# Altium integrated library Linear Technology Power Management Battery Management.IntLib: 626 symbols (part 26 of 56)
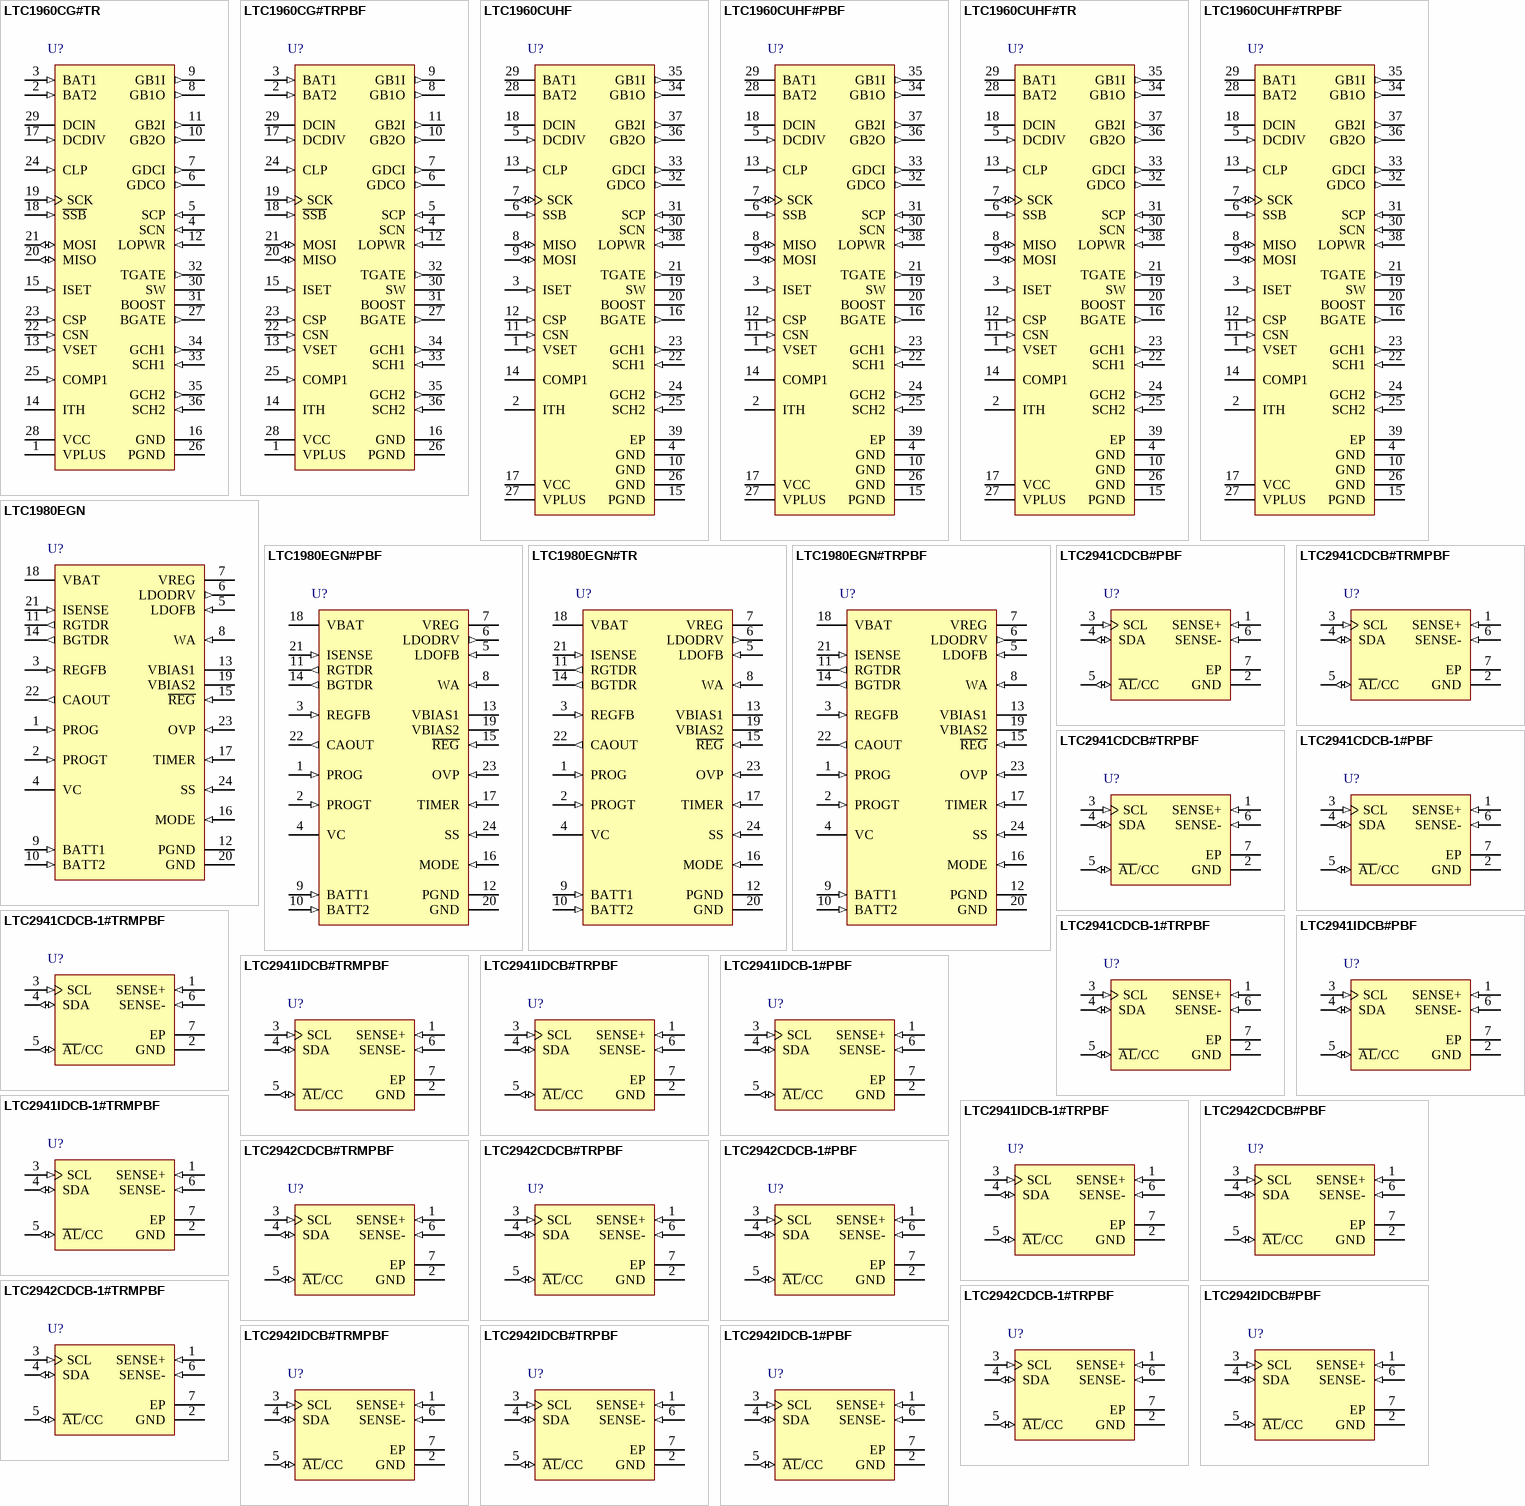
[diagram p47: symbols LTC1960CG#TR to LTC2942IDCB-1#PBF]

## LTC1980EGN#TRPBF
designator U?
Combination Battery Charger and System DC/DC Converter, 4.1 to 12 V Vin, 24-pin SOP (GN24), -40 to 85 degC, Pb-Free, Tape and Reel; Manufacturer: Linear Technology; PartNumber: LTC1980EGN#TRPBF; Battery Chemistry: Li-Ion, Li-Polymer, NiCd, NiMH, Lead Acid; Charge Termination: On-board timer; Float Voltage: Adj; Max Charge Current(A): 2; Type of Charger: Switching, Buck-Boost; Vin Max(V): 12; Vin Min(V): 4.1; PackageVersion: Rev. B, 03/2012; PackageReference: GN24; PackageDescription: 24-Pin Plastic SSOP , Body 8.5 x 3.9 mm, Pitch 0.635 mm; Supplier 1: Digi-Key; Supplier Part Number 1: LTC1980EGN#TRPBF-ND; Packing: Tape and Reel; RoHS: TRUE; Mounting Technology: Surface Mount; ComponentLink1Description: Manufacturer URL; ComponentLink1URL: http://www.linear.com/; ComponentLink2Description: Datasheet; ComponentLink2URL: http://cds.linear.com/docs/en/datasheet/1980f.pdf; ComponentLink3Description: Package Specification; ComponentLink3URL: http://cds.linear.com/docs/en/packaging/05081641_B_GN24.pdf
footprint LT-GN-24_N (SOP, 24-Leads, Body 8.7x4mm, Pitch 0.635mm, IPC Medium Density)
footprint LT-GN-24_L (SOP, 24-Leads, Body 8.7x4mm, Pitch 0.635mm, IPC High Density)
footprint LT-GN-24_M (SOP, 24-Leads, Body 8.7x4mm, Pitch 0.635mm, IPC Low Density)
pins: 1 PROG (in) "Charge Current Ratio Programming Pin. Programs the full charge current when the charger is in the constant current mode. A resistor placed between the PROG pin and the PROGT pin (Pin 2) determines the charge current. The (See Datasheet)", 2 PROGT (in) "Trickle Charge Programming Pin. Programs the trickle charge current for a deeply discharged battery. Two resistors are used, one between the PROGT pin and CAOUT (Pin 22) and another from PROGT to ground. A capacitor between (See Datasheet)", 3 REGFB (in) "DC/DC Converter Feedback Pin. This pin is used to program the DC/DC converter output voltage when the LTC1980 is in the DC/DC (regulator) converter mode. An external resistor divider from VREG to REGFB to ground programs the (See Datasheet)", 4 VC "Control Signal of the Inner Loop of the Current Mode PWM. A common current mode loop is used by the battery charger and voltage regulator functions. Minimum duty factor (measured on BGTDR (Pin 14) in regulator mode and RGTDR (See Datasheet)", 5 LDOFB (in) "Low Dropout Regulator Feedback Pin. This pin is used to program the low dropout linear regulator output voltage. An external resistor divider from the output of the LDO regulator (drain of the external MOSFET) to LDOFB to (See Datasheet)", 6 LDODRV (out) "Low Dropout Error Amplifier Output. This pin drives the gate of an external PMOS pass transistor. This pin is pulled up to VREG (shutting off the pass transistor) if MODE (Pin 16) is grounded or if undervoltage occurs.", 7 VREG (power) "Connection Point to the DC/DC Converter Side of the Combo Charger/Converter Circuit.", 8 WA (in) "Wall Adapter Comparator Input. An external resistor divider from the wall adapter output to WA to ground sets the threshold which determines if charging can occur. If the wall adapter is below this threshold, the LTC1980 (See Datasheet)", 9 BATT1 (in) "Logic Input Pin for Selecting Preprogrammed Li-Ion Charge Voltage. See Truth Table logic settings.", 10 BATT2 (in) "Logic Input Pin for Selecting Preprogrammed Li-Ion Charge Voltage. The following combinations of BATT1 and BATT2 select the correct Li-Ion charge voltage.", 11 RGTDR (out) "DC/DC Converter (Regulator) Side Gate Drive Pin. This pin provides gate drive to the external MOSFET (REG-FET) that connects to VREG via the transformer.", 12 PGND (power) "Power Ground. Refer to the Applications Information section for proper use of ground and power ground connections.", 13 VBIAS1 (power) "Internally Generated Power Bus. Bypass this pin with a 1uF or larger ceramic capacitor (or other low ESR capacitor) to PGND (Pin 12). Do not connect any load to this pin.", 14 BGTDR (out) "DC/DC Converter (Battery) Side Gate Drive Pin. This pin provides gate drive to the external MOSFET (BAT-FET) that connects to VBAT via the transformer", 15 ~{REG} (in) "Bidirectional Regulator Mode Control Pin. A pull-up resistor is required between this pin and VBIAS2. This pin is open when charging normally, has a weak pulldown (approximately 5uA) when conditioning the battery and a (See Datasheet)", 16 MODE (in) "Selects different operating modes in both charger and DC/DC converter configurations. Also enables and disables Burst Mode operation. See Mode Pin Operation table in Application section.", 17 TIMER (in) "A timing capacitor on this pin determines the normal charge time for charge termination.", 18 VBAT (power) "This pin connects to the positive terminal of the battery and the battery side of the power converte", 19 VBIAS2 (power) "Internally Generated Voltage. Bypass this pin with a 1uF or larger ceramic capacitor (or other low ESR capacitor). Do not connect any load to this pin.", 20 GND (power) "Signal Ground. This pin should Kelvinconnect to the current sense resistor (RSENSE).", 21 ISENSE (in) "Current Sense Input Pin. Connects internally to a current amplifier and zero current comparator. This pin should Kelvin-connect to the current sense resistor (RSENSE) .", 22 CAOUT (out) "Current Amplifier Output. A program resistor connects between this pin and PROGT (Pin 2) to set the charge current (in constant-current mode).", 23 OVP (in) "Overvoltage Protection. This pin connects to the tap on an optional external voltage divider connected across the battery. This allows nonstandard float voltages to be used for the battery charger. Overvoltage, restart and (See Datasheet)", 24 SS (in) "Soft-Start. A capacitor between this pin and ground sets the battery charge ramp rate. Battery charge current is very low the moment after the converter switches from DC/DC converter (regulator) mode to battery charger mode (See Datasheet)"

## LTC2941CDCB#PBF
designator U?
Battery Gas Gauge with I2C Interface, 2.7 to 5.5 V Vin, 6-pin SON (DCB-6), 0 to 70 degC, Pb-Free; Manufacturer: Linear Technology; PartNumber: LTC2941CDCB#PBF; Battery Chemistry: Li-Ion, Li-Polymer; Number of Cells: 1; Type of Charger: Coulomb Counter; Vin Max(V): 5.5; Vin Min(V): 2.7; DatasheetVersion: Rev. A; PackageVersion: Rev. A, 03/2011; PackageReference: DCB-6; PackageDescription: 6-Pin Plastic DFN, Body 2 x 3 mm, Pitch 0.5 mm; Supplier 1: Newark; Supplier Part Number 1: 67R4256; RoHS: TRUE; Mounting Technology: Surface Mount; Code_JEDEC: MO-229; ComponentLink1Description: Manufacturer URL; ComponentLink1URL: http://www.linear.com/; ComponentLink2Description: Datasheet; ComponentLink2URL: http://cds.linear.com/docs/en/datasheet/2941fa.pdf; ComponentLink3Description: Package Specification; ComponentLink3URL: http://www.linear.com/docs/en/packaging/(DCB6)%20DFN%2005-08-1715%20Rev%20A.pdf
footprint LT-DCB-6_V (SON, 6-Leads, Body 3x2mm, Pitch 0.5mm, Thermal Pad 1.65x1.35mm)
pins: 1 SENSE+ (in) "Positive Current Sense Input and Power Supply. Connect to the load/charger side of the sense resistor. VSENSE+ operating range is 2.7V to 5.5V.", 2 GND (power) "Device Ground. Connect directly to the negative battery terminal.", 3 SCL (in) "Serial Bus Clock Input.", 4 SDA (io) "Serial Bus Data Input and Output.", 5 ~{AL}/CC (io) "Alert Output or Charge Complete Input.", 6 SENSE- (in) "Negative Current Sense Input.", 7 EP "Do Not Connect."

## LTC2941CDCB#TRMPBF
designator U?
Battery Gas Gauge with I2C Interface, 2.7 to 5.5 V Vin, 6-pin SON (DCB-6), 0 to 70 degC, Pb-Free, Mini Tape and Reel; Manufacturer: Linear Technology; PartNumber: LTC2941CDCB#TRMPBF; Battery Chemistry: Li-Ion, Li-Polymer; Number of Cells: 1; Type of Charger: Coulomb Counter; Vin Max(V): 5.5; Vin Min(V): 2.7; DatasheetVersion: Rev. A; PackageVersion: Rev. A, 03/2011; PackageReference: DCB-6; PackageDescription: 6-Pin Plastic DFN, Body 2 x 3 mm, Pitch 0.5 mm; Supplier 1: Digi-Key; Supplier Part Number 1: LTC2941CDCB#TRMPBFTR-ND; Supplier 2: Digi-Key; Supplier Part Number 2: LTC2941CDCB#TRMPBFCT-ND; Supplier 3: Digi-Key; Supplier Part Number 3: LTC2941CDCB#TRMPBFDKR-ND; Supplier 4: Newark; Supplier Part Number 4: 67R9014; Packing: Mini Tape and Reel; RoHS: TRUE; Mounting Technology: Surface Mount; Code_JEDEC: MO-229; ComponentLink1Description: Manufacturer URL; ComponentLink1URL: http://www.linear.com/; ComponentLink2Description: Datasheet; ComponentLink2URL: http://cds.linear.com/docs/en/datasheet/2941fa.pdf; ComponentLink3Description: Package Specification; ComponentLink3URL: http://www.linear.com/docs/en/packaging/(DCB6)%20DFN%2005-08-1715%20Rev%20A.pdf
footprint LT-DCB-6_V (SON, 6-Leads, Body 3x2mm, Pitch 0.5mm, Thermal Pad 1.65x1.35mm)
pins: 1 SENSE+ (in) "Positive Current Sense Input and Power Supply. Connect to the load/charger side of the sense resistor. VSENSE+ operating range is 2.7V to 5.5V.", 2 GND (power) "Device Ground. Connect directly to the negative battery terminal.", 3 SCL (in) "Serial Bus Clock Input.", 4 SDA (io) "Serial Bus Data Input and Output.", 5 ~{AL}/CC (io) "Alert Output or Charge Complete Input.", 6 SENSE- (in) "Negative Current Sense Input.", 7 EP "Do Not Connect."

## LTC2941CDCB#TRPBF
designator U?
Battery Gas Gauge with I2C Interface, 2.7 to 5.5 V Vin, 6-pin SON (DCB-6), 0 to 70 degC, Pb-Free, Tape and Reel; Manufacturer: Linear Technology; PartNumber: LTC2941CDCB#TRPBF; Battery Chemistry: Li-Ion, Li-Polymer; Number of Cells: 1; Type of Charger: Coulomb Counter; Vin Max(V): 5.5; Vin Min(V): 2.7; DatasheetVersion: Rev. A; PackageVersion: Rev. A, 03/2011; PackageReference: DCB-6; PackageDescription: 6-Pin Plastic DFN, Body 2 x 3 mm, Pitch 0.5 mm; Supplier 1: Digi-Key; Supplier Part Number 1: LTC2941CDCB#TRPBF-ND; Packing: Tape and Reel; RoHS: TRUE; Mounting Technology: Surface Mount; Code_JEDEC: MO-229; ComponentLink1Description: Manufacturer URL; ComponentLink1URL: http://www.linear.com/; ComponentLink2Description: Datasheet; ComponentLink2URL: http://cds.linear.com/docs/en/datasheet/2941fa.pdf; ComponentLink3Description: Package Specification; ComponentLink3URL: http://www.linear.com/docs/en/packaging/(DCB6)%20DFN%2005-08-1715%20Rev%20A.pdf
footprint LT-DCB-6_V (SON, 6-Leads, Body 3x2mm, Pitch 0.5mm, Thermal Pad 1.65x1.35mm)
pins: 1 SENSE+ (in) "Positive Current Sense Input and Power Supply. Connect to the load/charger side of the sense resistor. VSENSE+ operating range is 2.7V to 5.5V.", 2 GND (power) "Device Ground. Connect directly to the negative battery terminal.", 3 SCL (in) "Serial Bus Clock Input.", 4 SDA (io) "Serial Bus Data Input and Output.", 5 ~{AL}/CC (io) "Alert Output or Charge Complete Input.", 6 SENSE- (in) "Negative Current Sense Input.", 7 EP "Do Not Connect."

## LTC2941CDCB-1#PBF
designator U?
1 A I2C Battery Gas Gauge with Internal Sense Resistor, 2.7 to 5.5 V Vin, 6-pin SON (DCB-6), 0 to 70 degC, Pb-Free; Manufacturer: Linear Technology; PartNumber: LTC2941CDCB-1#PBF; Battery Chemistry: Li-Ion, Li-Polymer; Number of Cells: 1; Type of Charger: Coulomb Counter; Vin Max(V): 5.5; Vin Min(V): 2.7; PackageVersion: Rev. A, 03/2011; PackageReference: DCB-6; PackageDescription: 6-Pin Plastic DFN, Body 2 x 3 mm, Pitch 0.5 mm; Supplier 1: Farnell; Supplier Part Number 1: 1847651; Supplier 2: Newark; Supplier Part Number 2: 84R7840; RoHS: TRUE; Mounting Technology: Surface Mount; Code_JEDEC: MO-229; ComponentLink1Description: Manufacturer URL; ComponentLink1URL: http://www.linear.com/; ComponentLink2Description: Datasheet; ComponentLink2URL: http://cds.linear.com/docs/en/datasheet/29411f.pdf; ComponentLink3Description: Package Specification; ComponentLink3URL: http://www.linear.com/docs/en/packaging/(DCB6)%20DFN%2005-08-1715%20Rev%20A.pdf
footprint LT-DCB-6_V (SON, 6-Leads, Body 3x2mm, Pitch 0.5mm, Thermal Pad 1.65x1.35mm)
pins: 1 SENSE+ (in) "Positive Current Sense Input and Power Supply. Connect to the load/charger side of the sense resistor. VSENSE+ operating range is 2.7V to 5.5V.", 2 GND (power) "Device Ground. Connect directly to the negative battery terminal.", 3 SCL (in) "Serial Bus Clock Input.", 4 SDA (io) "Serial Bus Data Input and Output.", 5 ~{AL}/CC (io) "Alert Output or Charge Complete Input.", 6 SENSE- (in) "Negative Current Sense Input.", 7 EP "Do Not Connect."

## LTC2941CDCB-1#TRMPBF
designator U?
1 A I2C Battery Gas Gauge with Internal Sense Resistor, 2.7 to 5.5 V Vin, 6-pin SON (DCB-6), 0 to 70 degC, Pb-Free, Mini Tape and Reel; Manufacturer: Linear Technology; PartNumber: LTC2941CDCB-1#TRMPBF; Battery Chemistry: Li-Ion, Li-Polymer; Number of Cells: 1; Type of Charger: Coulomb Counter; Vin Max(V): 5.5; Vin Min(V): 2.7; PackageVersion: Rev. A, 03/2011; PackageReference: DCB-6; PackageDescription: 6-Pin Plastic DFN, Body 2 x 3 mm, Pitch 0.5 mm; Supplier 1: Digi-Key; Supplier Part Number 1: LTC2941CDCB-1#TRMPBFTR-ND; Supplier 2: Digi-Key; Supplier Part Number 2: LTC2941CDCB-1#TRMPBFCT-ND; Supplier 3: Digi-Key; Supplier Part Number 3: LTC2941CDCB-1#TRMPBFDKR-ND; Supplier 4: Newark; Supplier Part Number 4: 84R6664; Packing: Mini Tape and Reel; RoHS: TRUE; Mounting Technology: Surface Mount; Code_JEDEC: MO-229; ComponentLink1Description: Manufacturer URL; ComponentLink1URL: http://www.linear.com/; ComponentLink2Description: Datasheet; ComponentLink2URL: http://cds.linear.com/docs/en/datasheet/29411f.pdf; ComponentLink3Description: Package Specification; ComponentLink3URL: http://www.linear.com/docs/en/packaging/(DCB6)%20DFN%2005-08-1715%20Rev%20A.pdf
footprint LT-DCB-6_V (SON, 6-Leads, Body 3x2mm, Pitch 0.5mm, Thermal Pad 1.65x1.35mm)
pins: 1 SENSE+ (in) "Positive Current Sense Input and Power Supply. Connect to the load/charger side of the sense resistor. VSENSE+ operating range is 2.7V to 5.5V.", 2 GND (power) "Device Ground. Connect directly to the negative battery terminal.", 3 SCL (in) "Serial Bus Clock Input.", 4 SDA (io) "Serial Bus Data Input and Output.", 5 ~{AL}/CC (io) "Alert Output or Charge Complete Input.", 6 SENSE- (in) "Negative Current Sense Input.", 7 EP "Do Not Connect."

## LTC2941CDCB-1#TRPBF
designator U?
1 A I2C Battery Gas Gauge with Internal Sense Resistor, 2.7 to 5.5 V Vin, 6-pin SON (DCB-6), 0 to 70 degC, Pb-Free, Tape and Reel; Manufacturer: Linear Technology; PartNumber: LTC2941CDCB-1#TRPBF; Battery Chemistry: Li-Ion, Li-Polymer; Number of Cells: 1; Type of Charger: Coulomb Counter; Vin Max(V): 5.5; Vin Min(V): 2.7; PackageVersion: Rev. A, 03/2011; PackageReference: DCB-6; PackageDescription: 6-Pin Plastic DFN, Body 2 x 3 mm, Pitch 0.5 mm; Supplier 1: Digi-Key; Supplier Part Number 1: LTC2941CDCB-1#TRPBF-ND; Packing: Tape and Reel; RoHS: TRUE; Mounting Technology: Surface Mount; Code_JEDEC: MO-229; ComponentLink1Description: Manufacturer URL; ComponentLink1URL: http://www.linear.com/; ComponentLink2Description: Datasheet; ComponentLink2URL: http://cds.linear.com/docs/en/datasheet/29411f.pdf; ComponentLink3Description: Package Specification; ComponentLink3URL: http://www.linear.com/docs/en/packaging/(DCB6)%20DFN%2005-08-1715%20Rev%20A.pdf
footprint LT-DCB-6_V (SON, 6-Leads, Body 3x2mm, Pitch 0.5mm, Thermal Pad 1.65x1.35mm)
pins: 1 SENSE+ (in) "Positive Current Sense Input and Power Supply. Connect to the load/charger side of the sense resistor. VSENSE+ operating range is 2.7V to 5.5V.", 2 GND (power) "Device Ground. Connect directly to the negative battery terminal.", 3 SCL (in) "Serial Bus Clock Input.", 4 SDA (io) "Serial Bus Data Input and Output.", 5 ~{AL}/CC (io) "Alert Output or Charge Complete Input.", 6 SENSE- (in) "Negative Current Sense Input.", 7 EP "Do Not Connect."

## LTC2941IDCB#PBF
designator U?
Battery Gas Gauge with I2C Interface, 2.7 to 5.5 V Vin, 6-pin SON (DCB-6), -40 to 85 degC, Pb-Free; Manufacturer: Linear Technology; PartNumber: LTC2941IDCB#PBF; Battery Chemistry: Li-Ion, Li-Polymer; Number of Cells: 1; Type of Charger: Coulomb Counter; Vin Max(V): 5.5; Vin Min(V): 2.7; DatasheetVersion: Rev. A; PackageVersion: Rev. A, 03/2011; PackageReference: DCB-6; PackageDescription: 6-Pin Plastic DFN, Body 2 x 3 mm, Pitch 0.5 mm; RoHS: TRUE; Mounting Technology: Surface Mount; Code_JEDEC: MO-229; ComponentLink1Description: Manufacturer URL; ComponentLink1URL: http://www.linear.com/; ComponentLink2Description: Datasheet; ComponentLink2URL: http://cds.linear.com/docs/en/datasheet/2941fa.pdf; ComponentLink3Description: Package Specification; ComponentLink3URL: http://www.linear.com/docs/en/packaging/(DCB6)%20DFN%2005-08-1715%20Rev%20A.pdf
footprint LT-DCB-6_V (SON, 6-Leads, Body 3x2mm, Pitch 0.5mm, Thermal Pad 1.65x1.35mm)
pins: 1 SENSE+ (in) "Positive Current Sense Input and Power Supply. Connect to the load/charger side of the sense resistor. VSENSE+ operating range is 2.7V to 5.5V.", 2 GND (power) "Device Ground. Connect directly to the negative battery terminal.", 3 SCL (in) "Serial Bus Clock Input.", 4 SDA (io) "Serial Bus Data Input and Output.", 5 ~{AL}/CC (io) "Alert Output or Charge Complete Input.", 6 SENSE- (in) "Negative Current Sense Input.", 7 EP "Do Not Connect."

## LTC2941IDCB#TRMPBF
designator U?
Battery Gas Gauge with I2C Interface, 2.7 to 5.5 V Vin, 6-pin SON (DCB-6), -40 to 85 degC, Pb-Free, Mini Tape and Reel; Manufacturer: Linear Technology; PartNumber: LTC2941IDCB#TRMPBF; Battery Chemistry: Li-Ion, Li-Polymer; Number of Cells: 1; Type of Charger: Coulomb Counter; Vin Max(V): 5.5; Vin Min(V): 2.7; DatasheetVersion: Rev. A; PackageVersion: Rev. A, 03/2011; PackageReference: DCB-6; PackageDescription: 6-Pin Plastic DFN, Body 2 x 3 mm, Pitch 0.5 mm; Supplier 1: Digi-Key; Supplier Part Number 1: LTC2941IDCB#TRMPBFTR-ND; Supplier 2: Digi-Key; Supplier Part Number 2: LTC2941IDCB#TRMPBFCT-ND; Supplier 3: Digi-Key; Supplier Part Number 3: LTC2941IDCB#TRMPBFDKR-ND; Supplier 4: Newark; Supplier Part Number 4: 67R9016; Packing: Mini Tape and Reel; RoHS: TRUE; Mounting Technology: Surface Mount; Code_JEDEC: MO-229; ComponentLink1Description: Manufacturer URL; ComponentLink1URL: http://www.linear.com/; ComponentLink2Description: Datasheet; ComponentLink2URL: http://cds.linear.com/docs/en/datasheet/2941fa.pdf; ComponentLink3Description: Package Specification; ComponentLink3URL: http://www.linear.com/docs/en/packaging/(DCB6)%20DFN%2005-08-1715%20Rev%20A.pdf
footprint LT-DCB-6_V (SON, 6-Leads, Body 3x2mm, Pitch 0.5mm, Thermal Pad 1.65x1.35mm)
pins: 1 SENSE+ (in) "Positive Current Sense Input and Power Supply. Connect to the load/charger side of the sense resistor. VSENSE+ operating range is 2.7V to 5.5V.", 2 GND (power) "Device Ground. Connect directly to the negative battery terminal.", 3 SCL (in) "Serial Bus Clock Input.", 4 SDA (io) "Serial Bus Data Input and Output.", 5 ~{AL}/CC (io) "Alert Output or Charge Complete Input.", 6 SENSE- (in) "Negative Current Sense Input.", 7 EP "Do Not Connect."

## LTC2941IDCB#TRPBF
designator U?
Battery Gas Gauge with I2C Interface, 2.7 to 5.5 V Vin, 6-pin SON (DCB-6), -40 to 85 degC, Pb-Free, Tape and Reel; Manufacturer: Linear Technology; PartNumber: LTC2941IDCB#TRPBF; Battery Chemistry: Li-Ion, Li-Polymer; Number of Cells: 1; Type of Charger: Coulomb Counter; Vin Max(V): 5.5; Vin Min(V): 2.7; DatasheetVersion: Rev. A; PackageVersion: Rev. A, 03/2011; PackageReference: DCB-6; PackageDescription: 6-Pin Plastic DFN, Body 2 x 3 mm, Pitch 0.5 mm; Supplier 1: Digi-Key; Supplier Part Number 1: LTC2941IDCB#TRPBF-ND; Supplier 2: Newark; Supplier Part Number 2: 67R9017; Packing: Tape and Reel; RoHS: TRUE; Mounting Technology: Surface Mount; Code_JEDEC: MO-229; ComponentLink1Description: Manufacturer URL; ComponentLink1URL: http://www.linear.com/; ComponentLink2Description: Datasheet; ComponentLink2URL: http://cds.linear.com/docs/en/datasheet/2941fa.pdf; ComponentLink3Description: Package Specification; ComponentLink3URL: http://www.linear.com/docs/en/packaging/(DCB6)%20DFN%2005-08-1715%20Rev%20A.pdf
footprint LT-DCB-6_V (SON, 6-Leads, Body 3x2mm, Pitch 0.5mm, Thermal Pad 1.65x1.35mm)
pins: 1 SENSE+ (in) "Positive Current Sense Input and Power Supply. Connect to the load/charger side of the sense resistor. VSENSE+ operating range is 2.7V to 5.5V.", 2 GND (power) "Device Ground. Connect directly to the negative battery terminal.", 3 SCL (in) "Serial Bus Clock Input.", 4 SDA (io) "Serial Bus Data Input and Output.", 5 ~{AL}/CC (io) "Alert Output or Charge Complete Input.", 6 SENSE- (in) "Negative Current Sense Input.", 7 EP "Do Not Connect."

## LTC2941IDCB-1#PBF
designator U?
1 A I2C Battery Gas Gauge with Internal Sense Resistor, 2.7 to 5.5 V Vin, 6-pin SON (DCB-6), -40 to 85 degC, Pb-Free; Manufacturer: Linear Technology; PartNumber: LTC2941IDCB-1#PBF; Battery Chemistry: Li-Ion, Li-Polymer; Number of Cells: 1; Type of Charger: Coulomb Counter; Vin Max(V): 5.5; Vin Min(V): 2.7; PackageVersion: Rev. A, 03/2011; PackageReference: DCB-6; PackageDescription: 6-Pin Plastic DFN, Body 2 x 3 mm, Pitch 0.5 mm; RoHS: TRUE; Mounting Technology: Surface Mount; Code_JEDEC: MO-229; ComponentLink1Description: Manufacturer URL; ComponentLink1URL: http://www.linear.com/; ComponentLink2Description: Datasheet; ComponentLink2URL: http://cds.linear.com/docs/en/datasheet/29411f.pdf; ComponentLink3Description: Package Specification; ComponentLink3URL: http://www.linear.com/docs/en/packaging/(DCB6)%20DFN%2005-08-1715%20Rev%20A.pdf
footprint LT-DCB-6_V (SON, 6-Leads, Body 3x2mm, Pitch 0.5mm, Thermal Pad 1.65x1.35mm)
pins: 1 SENSE+ (in) "Positive Current Sense Input and Power Supply. Connect to the load/charger side of the sense resistor. VSENSE+ operating range is 2.7V to 5.5V.", 2 GND (power) "Device Ground. Connect directly to the negative battery terminal.", 3 SCL (in) "Serial Bus Clock Input.", 4 SDA (io) "Serial Bus Data Input and Output.", 5 ~{AL}/CC (io) "Alert Output or Charge Complete Input.", 6 SENSE- (in) "Negative Current Sense Input.", 7 EP "Do Not Connect."

## LTC2941IDCB-1#TRMPBF
designator U?
1 A I2C Battery Gas Gauge with Internal Sense Resistor, 2.7 to 5.5 V Vin, 6-pin SON (DCB-6), -40 to 85 degC, Pb-Free, Mini Tape and Reel; Manufacturer: Linear Technology; PartNumber: LTC2941IDCB-1#TRMPBF; Battery Chemistry: Li-Ion, Li-Polymer; Number of Cells: 1; Type of Charger: Coulomb Counter; Vin Max(V): 5.5; Vin Min(V): 2.7; PackageVersion: Rev. A, 03/2011; PackageReference: DCB-6; PackageDescription: 6-Pin Plastic DFN, Body 2 x 3 mm, Pitch 0.5 mm; Supplier 1: Digi-Key; Supplier Part Number 1: LTC2941IDCB-1#TRMPBFTR-ND; Supplier 2: Digi-Key; Supplier Part Number 2: LTC2941IDCB-1#TRMPBFCT-ND; Supplier 3: Digi-Key; Supplier Part Number 3: LTC2941IDCB-1#TRMPBFDKR-ND; Packing: Mini Tape and Reel; RoHS: TRUE; Mounting Technology: Surface Mount; Code_JEDEC: MO-229; ComponentLink1Description: Manufacturer URL; ComponentLink1URL: http://www.linear.com/; ComponentLink2Description: Datasheet; ComponentLink2URL: http://cds.linear.com/docs/en/datasheet/29411f.pdf; ComponentLink3Description: Package Specification; ComponentLink3URL: http://www.linear.com/docs/en/packaging/(DCB6)%20DFN%2005-08-1715%20Rev%20A.pdf
footprint LT-DCB-6_V (SON, 6-Leads, Body 3x2mm, Pitch 0.5mm, Thermal Pad 1.65x1.35mm)
pins: 1 SENSE+ (in) "Positive Current Sense Input and Power Supply. Connect to the load/charger side of the sense resistor. VSENSE+ operating range is 2.7V to 5.5V.", 2 GND (power) "Device Ground. Connect directly to the negative battery terminal.", 3 SCL (in) "Serial Bus Clock Input.", 4 SDA (io) "Serial Bus Data Input and Output.", 5 ~{AL}/CC (io) "Alert Output or Charge Complete Input.", 6 SENSE- (in) "Negative Current Sense Input.", 7 EP "Do Not Connect."

## LTC2941IDCB-1#TRPBF
designator U?
1 A I2C Battery Gas Gauge with Internal Sense Resistor, 2.7 to 5.5 V Vin, 6-pin SON (DCB-6), -40 to 85 degC, Pb-Free, Tape and Reel; Manufacturer: Linear Technology; PartNumber: LTC2941IDCB-1#TRPBF; Battery Chemistry: Li-Ion, Li-Polymer; Number of Cells: 1; Type of Charger: Coulomb Counter; Vin Max(V): 5.5; Vin Min(V): 2.7; PackageVersion: Rev. A, 03/2011; PackageReference: DCB-6; PackageDescription: 6-Pin Plastic DFN, Body 2 x 3 mm, Pitch 0.5 mm; Supplier 1: Digi-Key; Supplier Part Number 1: LTC2941IDCB-1#TRPBF-ND; Packing: Tape and Reel; RoHS: TRUE; Mounting Technology: Surface Mount; Code_JEDEC: MO-229; ComponentLink1Description: Manufacturer URL; ComponentLink1URL: http://www.linear.com/; ComponentLink2Description: Datasheet; ComponentLink2URL: http://cds.linear.com/docs/en/datasheet/29411f.pdf; ComponentLink3Description: Package Specification; ComponentLink3URL: http://www.linear.com/docs/en/packaging/(DCB6)%20DFN%2005-08-1715%20Rev%20A.pdf
footprint LT-DCB-6_V (SON, 6-Leads, Body 3x2mm, Pitch 0.5mm, Thermal Pad 1.65x1.35mm)
pins: 1 SENSE+ (in) "Positive Current Sense Input and Power Supply. Connect to the load/charger side of the sense resistor. VSENSE+ operating range is 2.7V to 5.5V.", 2 GND (power) "Device Ground. Connect directly to the negative battery terminal.", 3 SCL (in) "Serial Bus Clock Input.", 4 SDA (io) "Serial Bus Data Input and Output.", 5 ~{AL}/CC (io) "Alert Output or Charge Complete Input.", 6 SENSE- (in) "Negative Current Sense Input.", 7 EP "Do Not Connect."

## LTC2942CDCB#PBF
designator U?
Battery Gas Gauge with Temperature, Voltage Measurement, 2.7 to 5.5 V Vin, 6-pin SON (DCB-6), 0 to 70 degC, Pb-Free; Manufacturer: Linear Technology; PartNumber: LTC2942CDCB#PBF; Battery Chemistry: Li-Ion, Li-Polymer; Number of Cells: 1; Type of Charger: Coulomb Counter; Vin Max(V): 5.5; Vin Min(V): 2.7; DatasheetVersion: Rev. A; PackageVersion: Rev. A, 03/2011; PackageReference: DCB-6; PackageDescription: 6-Pin Plastic DFN, Body 2 x 3 mm, Pitch 0.5 mm; Supplier 1: Newark; Supplier Part Number 1: 67R4257; RoHS: TRUE; Mounting Technology: Surface Mount; Code_JEDEC: MO-229; ComponentLink1Description: Manufacturer URL; ComponentLink1URL: http://www.linear.com/; ComponentLink2Description: Datasheet; ComponentLink2URL: http://cds.linear.com/docs/en/datasheet/2942fa.pdf; ComponentLink3Description: Package Specification; ComponentLink3URL: http://www.linear.com/docs/en/packaging/(DCB6)%20DFN%2005-08-1715%20Rev%20A.pdf
footprint LT-DCB-6_V (SON, 6-Leads, Body 3x2mm, Pitch 0.5mm, Thermal Pad 1.65x1.35mm)
pins: 1 SENSE+ (in) "Positive Current Sense Input and Power Supply. Connect to the load/charger side of the sense resistor. VSENSE+ operating range is 2.7V to 5.5V.", 2 GND (power) "Device Ground. Connect directly to the negative battery terminal.", 3 SCL (in) "Serial Bus Clock Input.", 4 SDA (io) "Serial Bus Data Input and Output.", 5 ~{AL}/CC (io) "Alert Output or Charge Complete Input.", 6 SENSE- (in) "Negative Current Sense Input.", 7 EP "Do Not Connect."

## LTC2942CDCB#TRMPBF
designator U?
Battery Gas Gauge with Temperature, Voltage Measurement, 2.7 to 5.5 V Vin, 6-pin SON (DCB-6), 0 to 70 degC, Pb-Free, Mini Tape and Reel; Manufacturer: Linear Technology; PartNumber: LTC2942CDCB#TRMPBF; Battery Chemistry: Li-Ion, Li-Polymer; Number of Cells: 1; Type of Charger: Coulomb Counter; Vin Max(V): 5.5; Vin Min(V): 2.7; DatasheetVersion: Rev. A; PackageVersion: Rev. A, 03/2011; PackageReference: DCB-6; PackageDescription: 6-Pin Plastic DFN, Body 2 x 3 mm, Pitch 0.5 mm; Supplier 1: Digi-Key; Supplier Part Number 1: LTC2942CDCB#TRMPBFTR-ND; Supplier 2: Digi-Key; Supplier Part Number 2: LTC2942CDCB#TRMPBFCT-ND; Supplier 3: Digi-Key; Supplier Part Number 3: LTC2942CDCB#TRMPBFDKR-ND; Supplier 4: Newark; Supplier Part Number 4: 73W9307; Supplier 5: Newark; Supplier Part Number 5: 67R9018; Packing: Mini Tape and Reel; RoHS: TRUE; Mounting Technology: Surface Mount; Code_JEDEC: MO-229; ComponentLink1Description: Manufacturer URL; ComponentLink1URL: http://www.linear.com/; ComponentLink2Description: Datasheet; ComponentLink2URL: http://cds.linear.com/docs/en/datasheet/2942fa.pdf; ComponentLink3Description: Package Specification; ComponentLink3URL: http://www.linear.com/docs/en/packaging/(DCB6)%20DFN%2005-08-1715%20Rev%20A.pdf
footprint LT-DCB-6_V (SON, 6-Leads, Body 3x2mm, Pitch 0.5mm, Thermal Pad 1.65x1.35mm)
pins: 1 SENSE+ (in) "Positive Current Sense Input and Power Supply. Connect to the load/charger side of the sense resistor. VSENSE+ operating range is 2.7V to 5.5V.", 2 GND (power) "Device Ground. Connect directly to the negative battery terminal.", 3 SCL (in) "Serial Bus Clock Input.", 4 SDA (io) "Serial Bus Data Input and Output.", 5 ~{AL}/CC (io) "Alert Output or Charge Complete Input.", 6 SENSE- (in) "Negative Current Sense Input.", 7 EP "Do Not Connect."

## LTC2942CDCB#TRPBF
designator U?
Battery Gas Gauge with Temperature, Voltage Measurement, 2.7 to 5.5 V Vin, 6-pin SON (DCB-6), 0 to 70 degC, Pb-Free, Tape and Reel; Manufacturer: Linear Technology; PartNumber: LTC2942CDCB#TRPBF; Battery Chemistry: Li-Ion, Li-Polymer; Number of Cells: 1; Type of Charger: Coulomb Counter; Vin Max(V): 5.5; Vin Min(V): 2.7; DatasheetVersion: Rev. A; PackageVersion: Rev. A, 03/2011; PackageReference: DCB-6; PackageDescription: 6-Pin Plastic DFN, Body 2 x 3 mm, Pitch 0.5 mm; Supplier 1: Digi-Key; Supplier Part Number 1: LTC2942CDCB#TRPBF-ND; Supplier 2: Newark; Supplier Part Number 2: 67R9019; Packing: Tape and Reel; RoHS: TRUE; Mounting Technology: Surface Mount; Code_JEDEC: MO-229; ComponentLink1Description: Manufacturer URL; ComponentLink1URL: http://www.linear.com/; ComponentLink2Description: Datasheet; ComponentLink2URL: http://cds.linear.com/docs/en/datasheet/2942fa.pdf; ComponentLink3Description: Package Specification; ComponentLink3URL: http://www.linear.com/docs/en/packaging/(DCB6)%20DFN%2005-08-1715%20Rev%20A.pdf
footprint LT-DCB-6_V (SON, 6-Leads, Body 3x2mm, Pitch 0.5mm, Thermal Pad 1.65x1.35mm)
pins: 1 SENSE+ (in) "Positive Current Sense Input and Power Supply. Connect to the load/charger side of the sense resistor. VSENSE+ operating range is 2.7V to 5.5V.", 2 GND (power) "Device Ground. Connect directly to the negative battery terminal.", 3 SCL (in) "Serial Bus Clock Input.", 4 SDA (io) "Serial Bus Data Input and Output.", 5 ~{AL}/CC (io) "Alert Output or Charge Complete Input.", 6 SENSE- (in) "Negative Current Sense Input.", 7 EP "Do Not Connect."

## LTC2942CDCB-1#PBF
designator U?
1 A Battery Gas Gauge with Internal Sense Resistor and Temperature / Voltage Measurement, 2.7 to 5.5 V Vin, 6-pin SON (DCB-6), 0 to 70 degC, Pb-Free; Manufacturer: Linear Technology; PartNumber: LTC2942CDCB-1#PBF; Battery Chemistry: Li-Ion, Li-Polymer; Number of Cells: 1; Type of Charger: Coulomb Counter; Vin Max(V): 5.5; Vin Min(V): 2.7; PackageVersion: Rev. A, 03/2011; PackageReference: DCB-6; PackageDescription: 6-Pin Plastic DFN, Body 2 x 3 mm, Pitch 0.5 mm; Supplier 1: Farnell; Supplier Part Number 1: 1847652; Supplier 2: Newark; Supplier Part Number 2: 84R7841; RoHS: TRUE; Mounting Technology: Surface Mount; Code_JEDEC: MO-229; ComponentLink1Description: Manufacturer URL; ComponentLink1URL: http://www.linear.com/; ComponentLink2Description: Datasheet; ComponentLink2URL: http://cds.linear.com/docs/en/datasheet/29421f.pdf; ComponentLink3Description: Package Specification; ComponentLink3URL: http://www.linear.com/docs/en/packaging/(DCB6)%20DFN%2005-08-1715%20Rev%20A.pdf
footprint LT-DCB-6_V (SON, 6-Leads, Body 3x2mm, Pitch 0.5mm, Thermal Pad 1.65x1.35mm)
pins: 1 SENSE+ (in) "Positive Current Sense Input and Power Supply. Connect to the load/charger side of the sense resistor. VSENSE+ operating range is 2.7V to 5.5V.", 2 GND (power) "Device Ground. Connect directly to the negative battery terminal.", 3 SCL (in) "Serial Bus Clock Input.", 4 SDA (io) "Serial Bus Data Input and Output.", 5 ~{AL}/CC (io) "Alert Output or Charge Complete Input.", 6 SENSE- (in) "Negative Current Sense Input.", 7 EP "Do Not Connect."

## LTC2942CDCB-1#TRMPBF
designator U?
1 A Battery Gas Gauge with Internal Sense Resistor and Temperature / Voltage Measurement, 2.7 to 5.5 V Vin, 6-pin SON (DCB-6), 0 to 70 degC, Pb-Free, Mini Tape and Reel; Manufacturer: Linear Technology; PartNumber: LTC2942CDCB-1#TRMPBF; Battery Chemistry: Li-Ion, Li-Polymer; Number of Cells: 1; Type of Charger: Coulomb Counter; Vin Max(V): 5.5; Vin Min(V): 2.7; PackageVersion: Rev. A, 03/2011; PackageReference: DCB-6; PackageDescription: 6-Pin Plastic DFN, Body 2 x 3 mm, Pitch 0.5 mm; Supplier 1: Digi-Key; Supplier Part Number 1: LTC2942CDCB-1#TRMPBFTR-ND; Supplier 2: Digi-Key; Supplier Part Number 2: LTC2942CDCB-1#TRMPBFCT-ND; Supplier 3: Digi-Key; Supplier Part Number 3: LTC2942CDCB-1#TRMPBFDKR-ND; Supplier 4: Newark; Supplier Part Number 4: 84R6668; Packing: Mini Tape and Reel; RoHS: TRUE; Mounting Technology: Surface Mount; Code_JEDEC: MO-229; ComponentLink1Description: Manufacturer URL; ComponentLink1URL: http://www.linear.com/; ComponentLink2Description: Datasheet; ComponentLink2URL: http://cds.linear.com/docs/en/datasheet/29421f.pdf; ComponentLink3Description: Package Specification; ComponentLink3URL: http://www.linear.com/docs/en/packaging/(DCB6)%20DFN%2005-08-1715%20Rev%20A.pdf
footprint LT-DCB-6_V (SON, 6-Leads, Body 3x2mm, Pitch 0.5mm, Thermal Pad 1.65x1.35mm)
pins: 1 SENSE+ (in) "Positive Current Sense Input and Power Supply. Connect to the load/charger side of the sense resistor. VSENSE+ operating range is 2.7V to 5.5V.", 2 GND (power) "Device Ground. Connect directly to the negative battery terminal.", 3 SCL (in) "Serial Bus Clock Input.", 4 SDA (io) "Serial Bus Data Input and Output.", 5 ~{AL}/CC (io) "Alert Output or Charge Complete Input.", 6 SENSE- (in) "Negative Current Sense Input.", 7 EP "Do Not Connect."

## LTC2942CDCB-1#TRPBF
designator U?
1 A Battery Gas Gauge with Internal Sense Resistor and Temperature / Voltage Measurement, 2.7 to 5.5 V Vin, 6-pin SON (DCB-6), 0 to 70 degC, Pb-Free, Tape and Reel; Manufacturer: Linear Technology; PartNumber: LTC2942CDCB-1#TRPBF; Battery Chemistry: Li-Ion, Li-Polymer; Number of Cells: 1; Type of Charger: Coulomb Counter; Vin Max(V): 5.5; Vin Min(V): 2.7; PackageVersion: Rev. A, 03/2011; PackageReference: DCB-6; PackageDescription: 6-Pin Plastic DFN, Body 2 x 3 mm, Pitch 0.5 mm; Supplier 1: Digi-Key; Supplier Part Number 1: LTC2942CDCB-1#TRPBF-ND; Packing: Tape and Reel; RoHS: TRUE; Mounting Technology: Surface Mount; Code_JEDEC: MO-229; ComponentLink1Description: Manufacturer URL; ComponentLink1URL: http://www.linear.com/; ComponentLink2Description: Datasheet; ComponentLink2URL: http://cds.linear.com/docs/en/datasheet/29421f.pdf; ComponentLink3Description: Package Specification; ComponentLink3URL: http://www.linear.com/docs/en/packaging/(DCB6)%20DFN%2005-08-1715%20Rev%20A.pdf
footprint LT-DCB-6_V (SON, 6-Leads, Body 3x2mm, Pitch 0.5mm, Thermal Pad 1.65x1.35mm)
pins: 1 SENSE+ (in) "Positive Current Sense Input and Power Supply. Connect to the load/charger side of the sense resistor. VSENSE+ operating range is 2.7V to 5.5V.", 2 GND (power) "Device Ground. Connect directly to the negative battery terminal.", 3 SCL (in) "Serial Bus Clock Input.", 4 SDA (io) "Serial Bus Data Input and Output.", 5 ~{AL}/CC (io) "Alert Output or Charge Complete Input.", 6 SENSE- (in) "Negative Current Sense Input.", 7 EP "Do Not Connect."

## LTC2942IDCB#PBF
designator U?
Battery Gas Gauge with Temperature, Voltage Measurement, 2.7 to 5.5 V Vin, 6-pin SON (DCB-6), -40 to 85 degC, Pb-Free; Manufacturer: Linear Technology; PartNumber: LTC2942IDCB#PBF; Battery Chemistry: Li-Ion, Li-Polymer; Number of Cells: 1; Type of Charger: Coulomb Counter; Vin Max(V): 5.5; Vin Min(V): 2.7; DatasheetVersion: Rev. A; PackageVersion: Rev. A, 03/2011; PackageReference: DCB-6; PackageDescription: 6-Pin Plastic DFN, Body 2 x 3 mm, Pitch 0.5 mm; Supplier 1: Farnell; Supplier Part Number 1: 2308124; Supplier 2: Newark; Supplier Part Number 2: 78T3104; RoHS: TRUE; Mounting Technology: Surface Mount; Code_JEDEC: MO-229; ComponentLink1Description: Manufacturer URL; ComponentLink1URL: http://www.linear.com/; ComponentLink2Description: Datasheet; ComponentLink2URL: http://cds.linear.com/docs/en/datasheet/2942fa.pdf; ComponentLink3Description: Package Specification; ComponentLink3URL: http://www.linear.com/docs/en/packaging/(DCB6)%20DFN%2005-08-1715%20Rev%20A.pdf
footprint LT-DCB-6_V (SON, 6-Leads, Body 3x2mm, Pitch 0.5mm, Thermal Pad 1.65x1.35mm)
pins: 1 SENSE+ (in) "Positive Current Sense Input and Power Supply. Connect to the load/charger side of the sense resistor. VSENSE+ operating range is 2.7V to 5.5V.", 2 GND (power) "Device Ground. Connect directly to the negative battery terminal.", 3 SCL (in) "Serial Bus Clock Input.", 4 SDA (io) "Serial Bus Data Input and Output.", 5 ~{AL}/CC (io) "Alert Output or Charge Complete Input.", 6 SENSE- (in) "Negative Current Sense Input.", 7 EP "Do Not Connect."

## LTC2942IDCB#TRMPBF
designator U?
Battery Gas Gauge with Temperature, Voltage Measurement, 2.7 to 5.5 V Vin, 6-pin SON (DCB-6), -40 to 85 degC, Pb-Free, Mini Tape and Reel; Manufacturer: Linear Technology; PartNumber: LTC2942IDCB#TRMPBF; Battery Chemistry: Li-Ion, Li-Polymer; Number of Cells: 1; Type of Charger: Coulomb Counter; Vin Max(V): 5.5; Vin Min(V): 2.7; DatasheetVersion: Rev. A; PackageVersion: Rev. A, 03/2011; PackageReference: DCB-6; PackageDescription: 6-Pin Plastic DFN, Body 2 x 3 mm, Pitch 0.5 mm; Supplier 1: Digi-Key; Supplier Part Number 1: LTC2942IDCB#TRMPBFTR-ND; Supplier 2: Digi-Key; Supplier Part Number 2: LTC2942IDCB#TRMPBFCT-ND; Supplier 3: Digi-Key; Supplier Part Number 3: LTC2942IDCB#TRMPBFDKR-ND; Supplier 4: Newark; Supplier Part Number 4: 67R9020; Packing: Mini Tape and Reel; RoHS: TRUE; Mounting Technology: Surface Mount; Code_JEDEC: MO-229; ComponentLink1Description: Manufacturer URL; ComponentLink1URL: http://www.linear.com/; ComponentLink2Description: Datasheet; ComponentLink2URL: http://cds.linear.com/docs/en/datasheet/2942fa.pdf; ComponentLink3Description: Package Specification; ComponentLink3URL: http://www.linear.com/docs/en/packaging/(DCB6)%20DFN%2005-08-1715%20Rev%20A.pdf
footprint LT-DCB-6_V (SON, 6-Leads, Body 3x2mm, Pitch 0.5mm, Thermal Pad 1.65x1.35mm)
pins: 1 SENSE+ (in) "Positive Current Sense Input and Power Supply. Connect to the load/charger side of the sense resistor. VSENSE+ operating range is 2.7V to 5.5V.", 2 GND (power) "Device Ground. Connect directly to the negative battery terminal.", 3 SCL (in) "Serial Bus Clock Input.", 4 SDA (io) "Serial Bus Data Input and Output.", 5 ~{AL}/CC (io) "Alert Output or Charge Complete Input.", 6 SENSE- (in) "Negative Current Sense Input.", 7 EP "Do Not Connect."

## LTC2942IDCB#TRPBF
designator U?
Battery Gas Gauge with Temperature, Voltage Measurement, 2.7 to 5.5 V Vin, 6-pin SON (DCB-6), -40 to 85 degC, Pb-Free, Tape and Reel; Manufacturer: Linear Technology; PartNumber: LTC2942IDCB#TRPBF; Battery Chemistry: Li-Ion, Li-Polymer; Number of Cells: 1; Type of Charger: Coulomb Counter; Vin Max(V): 5.5; Vin Min(V): 2.7; DatasheetVersion: Rev. A; PackageVersion: Rev. A, 03/2011; PackageReference: DCB-6; PackageDescription: 6-Pin Plastic DFN, Body 2 x 3 mm, Pitch 0.5 mm; Supplier 1: Digi-Key; Supplier Part Number 1: LTC2942IDCB#TRPBF-ND; Supplier 2: Newark; Supplier Part Number 2: 67R9021; Packing: Tape and Reel; RoHS: TRUE; Mounting Technology: Surface Mount; Code_JEDEC: MO-229; ComponentLink1Description: Manufacturer URL; ComponentLink1URL: http://www.linear.com/; ComponentLink2Description: Datasheet; ComponentLink2URL: http://cds.linear.com/docs/en/datasheet/2942fa.pdf; ComponentLink3Description: Package Specification; ComponentLink3URL: http://www.linear.com/docs/en/packaging/(DCB6)%20DFN%2005-08-1715%20Rev%20A.pdf
footprint LT-DCB-6_V (SON, 6-Leads, Body 3x2mm, Pitch 0.5mm, Thermal Pad 1.65x1.35mm)
pins: 1 SENSE+ (in) "Positive Current Sense Input and Power Supply. Connect to the load/charger side of the sense resistor. VSENSE+ operating range is 2.7V to 5.5V.", 2 GND (power) "Device Ground. Connect directly to the negative battery terminal.", 3 SCL (in) "Serial Bus Clock Input.", 4 SDA (io) "Serial Bus Data Input and Output.", 5 ~{AL}/CC (io) "Alert Output or Charge Complete Input.", 6 SENSE- (in) "Negative Current Sense Input.", 7 EP "Do Not Connect."

## LTC2942IDCB-1#PBF
designator U?
1 A Battery Gas Gauge with Internal Sense Resistor and Temperature / Voltage Measurement, 2.7 to 5.5 V Vin, 6-pin SON (DCB-6), -40 to 85 degC, Pb-Free; Manufacturer: Linear Technology; PartNumber: LTC2942IDCB-1#PBF; Battery Chemistry: Li-Ion, Li-Polymer; Number of Cells: 1; Type of Charger: Coulomb Counter; Vin Max(V): 5.5; Vin Min(V): 2.7; PackageVersion: Rev. A, 03/2011; PackageReference: DCB-6; PackageDescription: 6-Pin Plastic DFN, Body 2 x 3 mm, Pitch 0.5 mm; Supplier 1: Farnell; Supplier Part Number 1: 2075574; Supplier 2: Newark; Supplier Part Number 2: 84R7842; RoHS: TRUE; Mounting Technology: Surface Mount; Code_JEDEC: MO-229; ComponentLink1Description: Manufacturer URL; ComponentLink1URL: http://www.linear.com/; ComponentLink2Description: Datasheet; ComponentLink2URL: http://cds.linear.com/docs/en/datasheet/29421f.pdf; ComponentLink3Description: Package Specification; ComponentLink3URL: http://www.linear.com/docs/en/packaging/(DCB6)%20DFN%2005-08-1715%20Rev%20A.pdf
footprint LT-DCB-6_V (SON, 6-Leads, Body 3x2mm, Pitch 0.5mm, Thermal Pad 1.65x1.35mm)
pins: 1 SENSE+ (in) "Positive Current Sense Input and Power Supply. Connect to the load/charger side of the sense resistor. VSENSE+ operating range is 2.7V to 5.5V.", 2 GND (power) "Device Ground. Connect directly to the negative battery terminal.", 3 SCL (in) "Serial Bus Clock Input.", 4 SDA (io) "Serial Bus Data Input and Output.", 5 ~{AL}/CC (io) "Alert Output or Charge Complete Input.", 6 SENSE- (in) "Negative Current Sense Input.", 7 EP "Do Not Connect."

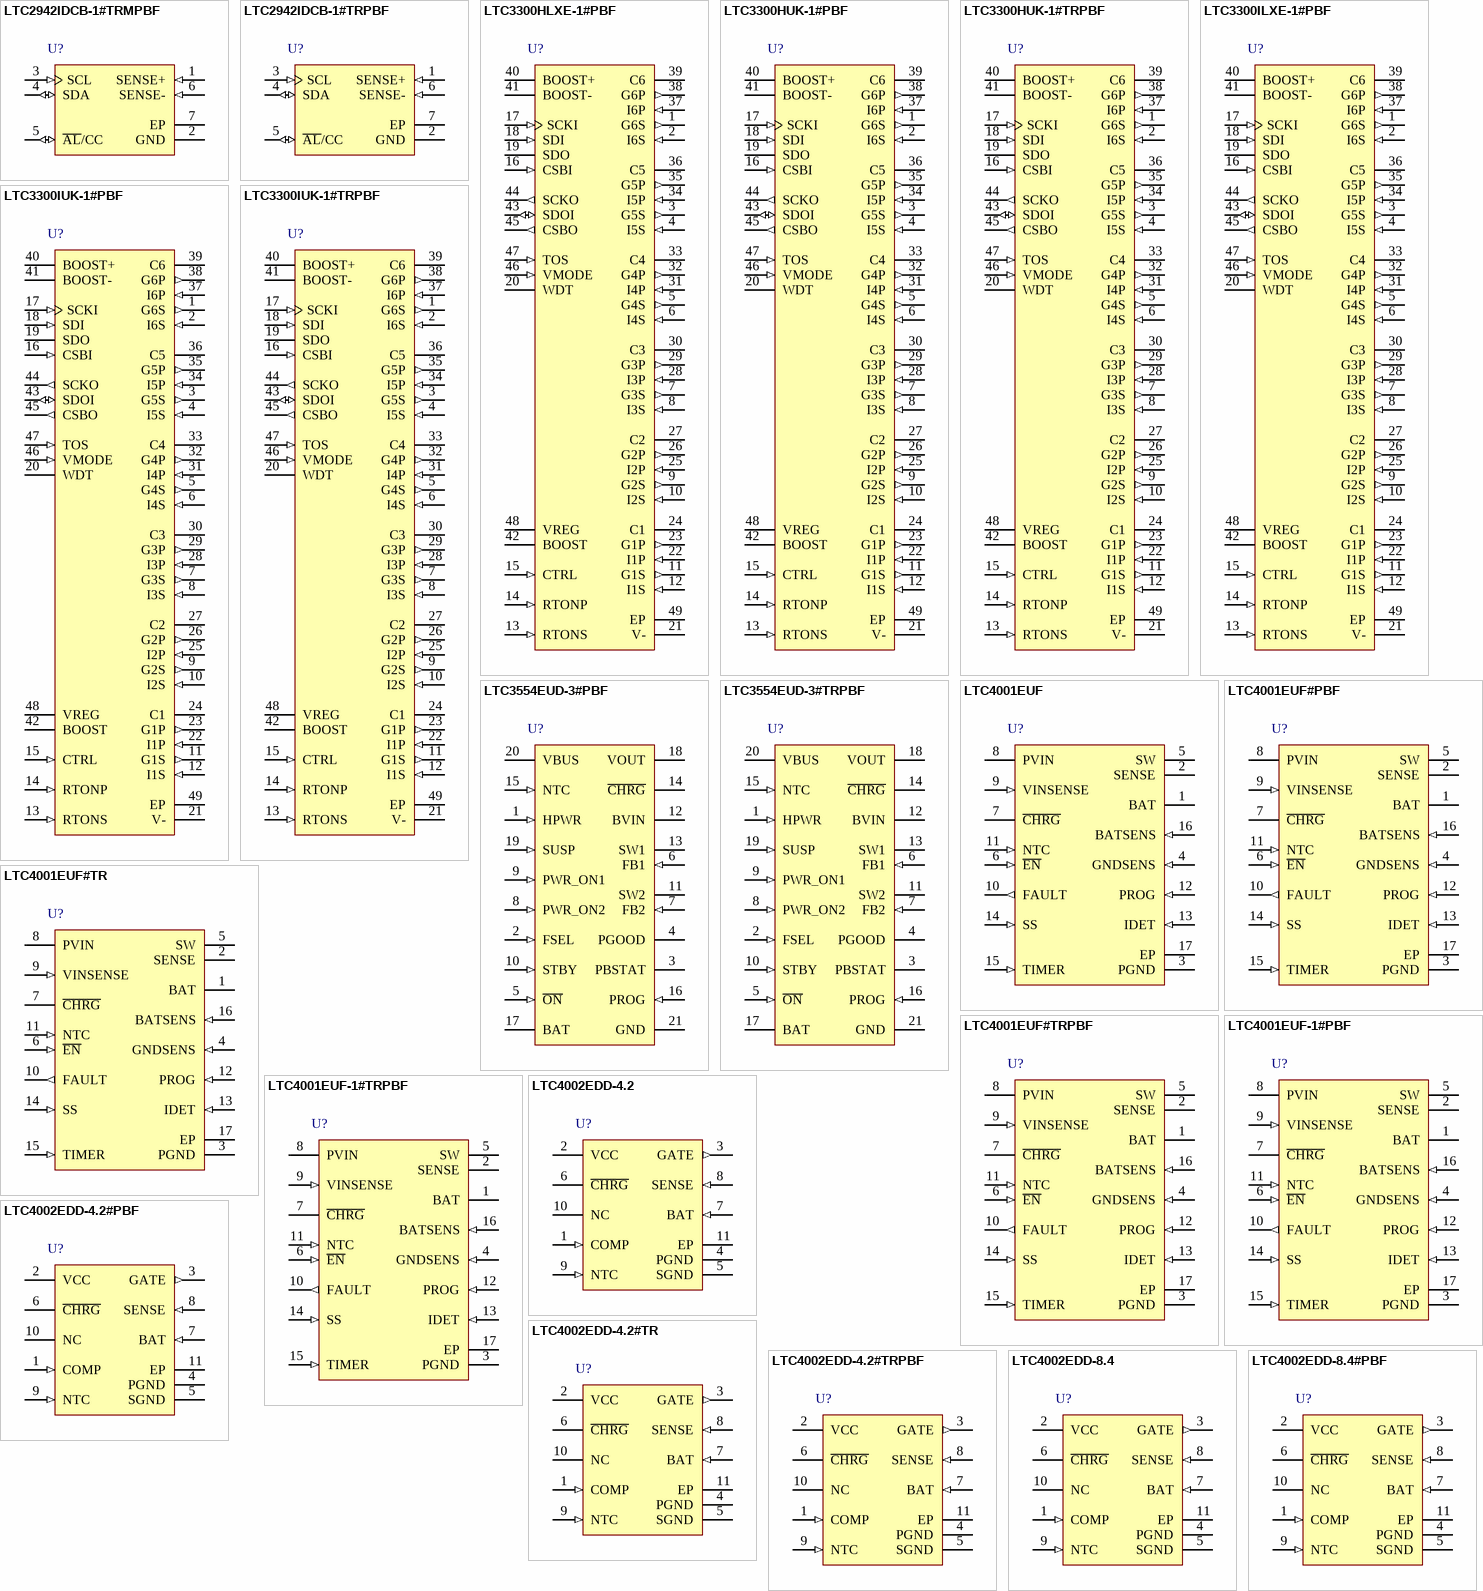
[diagram p11: symbols LTC2942IDCB-1#TRMPBF to LTC4002EDD-8.4#PBF]

## LTC2942IDCB-1#TRMPBF
designator U?
1 A Battery Gas Gauge with Internal Sense Resistor and Temperature / Voltage Measurement, 2.7 to 5.5 V Vin, 6-pin SON (DCB-6), -40 to 85 degC, Pb-Free, Mini Tape and Reel; Manufacturer: Linear Technology; PartNumber: LTC2942IDCB-1#TRMPBF; Battery Chemistry: Li-Ion, Li-Polymer; Number of Cells: 1; Type of Charger: Coulomb Counter; Vin Max(V): 5.5; Vin Min(V): 2.7; PackageVersion: Rev. A, 03/2011; PackageReference: DCB-6; PackageDescription: 6-Pin Plastic DFN, Body 2 x 3 mm, Pitch 0.5 mm; Supplier 1: Digi-Key; Supplier Part Number 1: LTC2942IDCB-1#TRMPBFTR-ND; Supplier 2: Digi-Key; Supplier Part Number 2: LTC2942IDCB-1#TRMPBFCT-ND; Supplier 3: Digi-Key; Supplier Part Number 3: LTC2942IDCB-1#TRMPBFDKR-ND; Supplier 4: Newark; Supplier Part Number 4: 84R6670; Packing: Mini Tape and Reel; RoHS: TRUE; Mounting Technology: Surface Mount; Code_JEDEC: MO-229; ComponentLink1Description: Manufacturer URL; ComponentLink1URL: http://www.linear.com/; ComponentLink2Description: Datasheet; ComponentLink2URL: http://cds.linear.com/docs/en/datasheet/29421f.pdf; ComponentLink3Description: Package Specification; ComponentLink3URL: http://www.linear.com/docs/en/packaging/(DCB6)%20DFN%2005-08-1715%20Rev%20A.pdf
footprint LT-DCB-6_V (SON, 6-Leads, Body 3x2mm, Pitch 0.5mm, Thermal Pad 1.65x1.35mm)
pins: 1 SENSE+ (in) "Positive Current Sense Input and Power Supply. Connect to the load/charger side of the sense resistor. VSENSE+ operating range is 2.7V to 5.5V.", 2 GND (power) "Device Ground. Connect directly to the negative battery terminal.", 3 SCL (in) "Serial Bus Clock Input.", 4 SDA (io) "Serial Bus Data Input and Output.", 5 ~{AL}/CC (io) "Alert Output or Charge Complete Input.", 6 SENSE- (in) "Negative Current Sense Input.", 7 EP "Do Not Connect."

## LTC2942IDCB-1#TRPBF
designator U?
1 A Battery Gas Gauge with Internal Sense Resistor and Temperature / Voltage Measurement, 2.7 to 5.5 V Vin, 6-pin SON (DCB-6), -40 to 85 degC, Pb-Free, Tape and Reel; Manufacturer: Linear Technology; PartNumber: LTC2942IDCB-1#TRPBF; Battery Chemistry: Li-Ion, Li-Polymer; Number of Cells: 1; Type of Charger: Coulomb Counter; Vin Max(V): 5.5; Vin Min(V): 2.7; PackageVersion: Rev. A, 03/2011; PackageReference: DCB-6; PackageDescription: 6-Pin Plastic DFN, Body 2 x 3 mm, Pitch 0.5 mm; Supplier 1: Digi-Key; Supplier Part Number 1: LTC2942IDCB-1#TRPBF-ND; Supplier 2: Newark; Supplier Part Number 2: 84R6671; Packing: Tape and Reel; RoHS: TRUE; Mounting Technology: Surface Mount; Code_JEDEC: MO-229; ComponentLink1Description: Manufacturer URL; ComponentLink1URL: http://www.linear.com/; ComponentLink2Description: Datasheet; ComponentLink2URL: http://cds.linear.com/docs/en/datasheet/29421f.pdf; ComponentLink3Description: Package Specification; ComponentLink3URL: http://www.linear.com/docs/en/packaging/(DCB6)%20DFN%2005-08-1715%20Rev%20A.pdf
footprint LT-DCB-6_V (SON, 6-Leads, Body 3x2mm, Pitch 0.5mm, Thermal Pad 1.65x1.35mm)
pins: 1 SENSE+ (in) "Positive Current Sense Input and Power Supply. Connect to the load/charger side of the sense resistor. VSENSE+ operating range is 2.7V to 5.5V.", 2 GND (power) "Device Ground. Connect directly to the negative battery terminal.", 3 SCL (in) "Serial Bus Clock Input.", 4 SDA (io) "Serial Bus Data Input and Output.", 5 ~{AL}/CC (io) "Alert Output or Charge Complete Input.", 6 SENSE- (in) "Negative Current Sense Input.", 7 EP "Do Not Connect."